# EAGLE library part SWD-MEC10 (library programming_headers)
0.635mm RIGHT ANGLE EDGE CARD ASSEMBLY
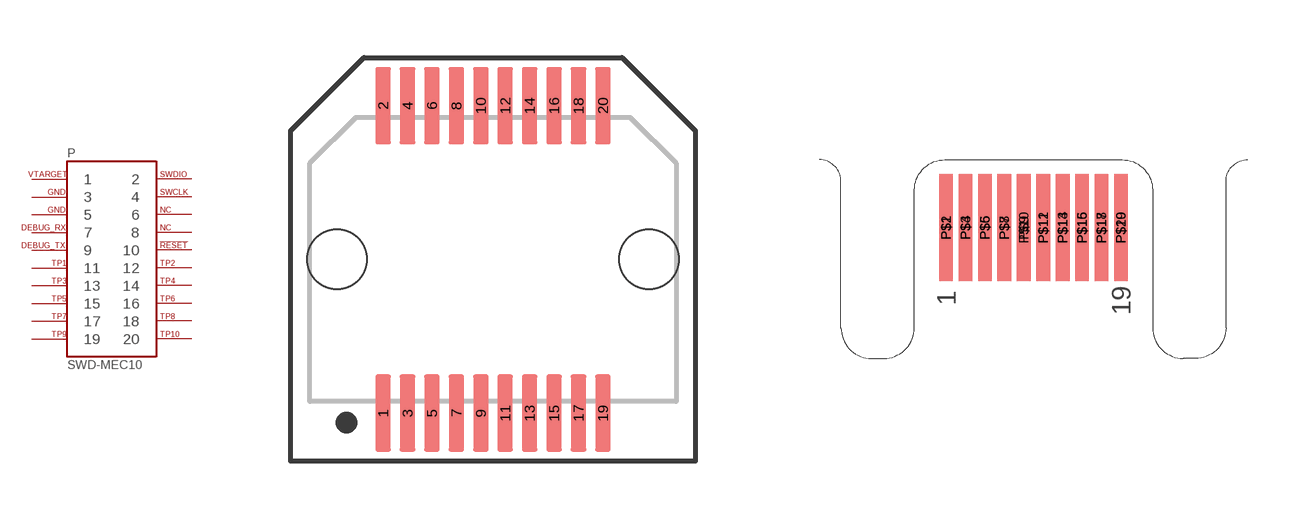
[diagram p2: symbol with the pads of MEC6-110-02-X-D-RAX-F; footprints MEC6-110-02-X-D-RAX-F, MEC6-110-02-X-D-RAX-M]

Designator prefix P

## SWD-MEC10-F (MF: Samtec; MP: MEC6-110-02-L-D-RA1; VALUE: MEC6-110-02-L-D-RA1)  [MEC6-110-02-X-D-RAX-F]
1  1  pwr
2  2
3  3  pwr
4  4
5  5  pwr
6  6  nc
7  7
8  8  nc
9  9
10  10
11  11
12  12
13  13
14  14
15  15
16  16
17  17
18  18
19  19
20  20

## SWD-MEC10-M (MF: Samtec; MP: MEC6-110-02-X-D-RAX)  [MEC6-110-02-X-D-RAX-M]
P$1  1  pwr
P$2  2
P$3  3  pwr
P$4  4
P$5  5  pwr
P$6  6  nc
P$7  7
P$8  8  nc
P$9  9
P$10  10
P$11  11
P$12  12
P$13  13
P$14  14
P$15  15
P$16  16
P$17  17
P$18  18
P$19  19
P$20  20

## Footprint MEC6-110-02-X-D-RAX-F (pad centres in mm)
0.635mm RIGHT ANGLE EDGE CARD ASSEMBLY - FEMALE
smd 0.4 x 2: 1 -2.857,-4; 2 -2.857,4; 3 -2.223,-4; 4 -2.223,4; 5 -1.587,-4; 6 -1.587,4; 7 -0.953,-4; 8 -0.953,4; 9 -0.318,-4; 10 -0.318,4; 11 0.318,-4; 12 0.318,4; 13 0.953,-4; 14 0.953,4; 15 1.587,-4; 16 1.587,4; 17 2.223,-4; 18 2.223,4; 19 2.857,-4; 20 2.857,4
hole 1.55 at -4.06,0
hole 1.55 at 4.06,0

## Footprint MEC6-110-02-X-D-RAX-M (pad centres in mm)
smd 0.45 x 3.5 bottom: P$1 -2.857,-2.223; P$3 -2.223,-2.223; P$5 -1.587,-2.223; P$7 -0.953,-2.223; P$9 -0.318,-2.223; P$11 0.318,-2.223; P$13 0.953,-2.223; P$15 1.587,-2.223; P$17 2.223,-2.223; P$19 2.857,-2.223
smd 0.45 x 3.5: P$2 -2.857,-2.223; P$4 -2.223,-2.223; P$6 -1.587,-2.223; P$8 -0.953,-2.223; P$10 -0.318,-2.223; P$12 0.318,-2.223; P$14 0.953,-2.223; P$16 1.587,-2.223; P$18 2.223,-2.223; P$20 2.857,-2.223